# Altium footprint library JST XH B9B-XH-A.PCBLIB: 1 footprints
Each footprint in its own frame and in the unit in brackets; x right, y up, seen from the top. Pads: shape width x height; smd on the part's side, far side on the other; paste and mask are expansions set on the pad; w line width, h text height; cw(c..) or ccw(c..) is an arc to the next point about the centre after c.
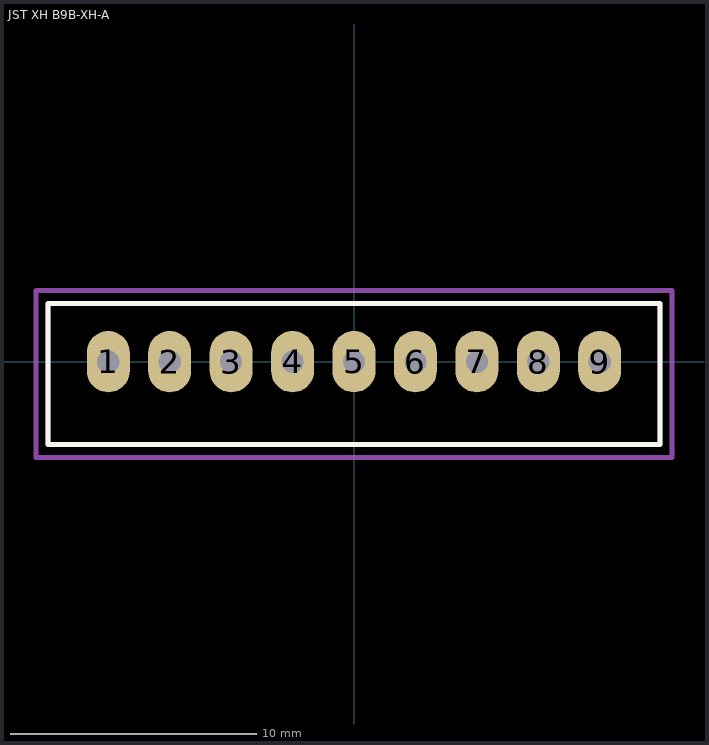
[diagram p0: the footprint, top view; thin cyan lines are the x and y axes]

## JST XH B9B-XH-A [mm]
height 7
pads (9):
  oval 1.75x2.5 hole 0.9: 1(-10,0) 2(-7.5,0) 3(-5,0) 4(-2.5,0) 5(0,0) 6(2.5,0) 7(5,0) 8(7.5,0) 9(10,0)
Top Overlay:
  lines w0.2: -12.45,-3.375 -12.45,2.375 12.45,2.375 12.45,-3.375 -12.45,-3.375
Mechanical 1:
  lines w0.2: -12.45,-3.375 12.45,-3.375 12.45,2.375 -12.45,2.375 -12.45,-3.375
Mechanical 15:
  lines w0.2: -0.5,0 0.5,0 ; 0,-0.5 0,0.5 ; -12.95,-3.9 -12.95,2.9 12.95,2.9 12.95,-3.9 -12.95,-3.9
3D body "JST B9B-XH-A.STEP": height 7, standoff -3.4, extent -12.45,-3.375 12.45,2.375